# Altium footprint library SM_L_1008.PcbLib: 1 footprints
Each footprint in its own frame and in the unit in brackets; x right, y up, seen from the top. Pads: shape width x height; smd on the part's side, far side on the other; paste and mask are expansions set on the pad; w line width, h text height; cw(c..) or ccw(c..) is an arc to the next point about the centre after c.
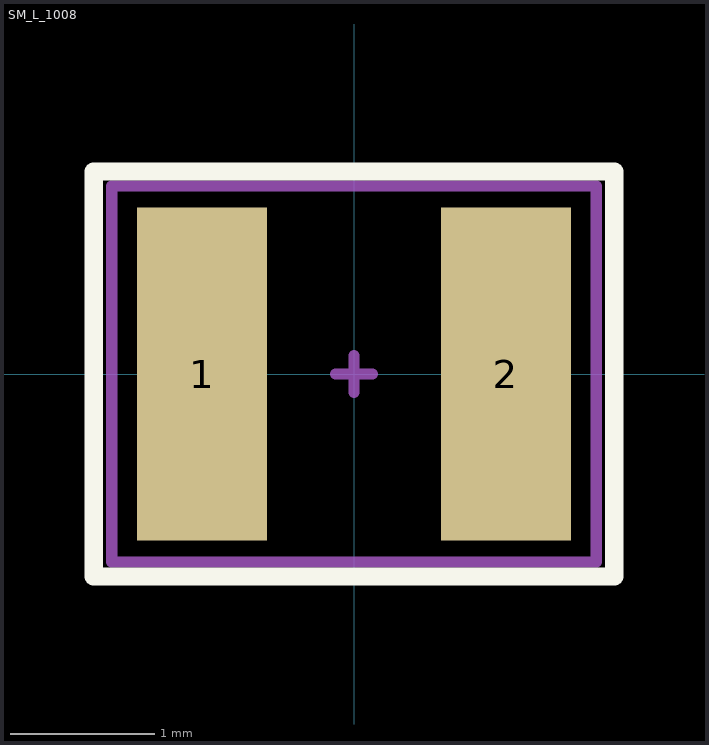
[diagram p0: the footprint, top view; thin cyan lines are the x and y axes]

## SM_L_1008 [mm] "Chip Ferrite; Body 2.5 x 2.0 mm (LxW typ)"
height 1.2
pads (2):
  rect 0.9x2.3 smd: 1(-1.05,0) 2(1.05,0)
Top Overlay:
  lines w0.127: -1.8,-1.4 -1.8,1.4 1.8,1.4 1.8,-1.4 -1.8,-1.4
Mechanical 15:
  lines w0.076: -0.127,0 0.127,0 ; 0,-0.127 0,0.127 ; -1.675,-1.3 1.675,-1.3 1.675,1.3 -1.675,1.3 -1.675,-1.3
3D body: height 1.07, standoff 0, extent 0.65,-1.1 1.3,1.1
3D body: height 1.07, standoff 0, extent -1.3,-1.1 -0.65,1.1
3D body: height 1.04, standoff 0, extent -0.65,-1.1 0.65,1.1